# Altium schematic symbol library Schlib_Samsung.SchLib: 2 symbols
Pins are listed as number, name and electrical type; pins without a type are passive.

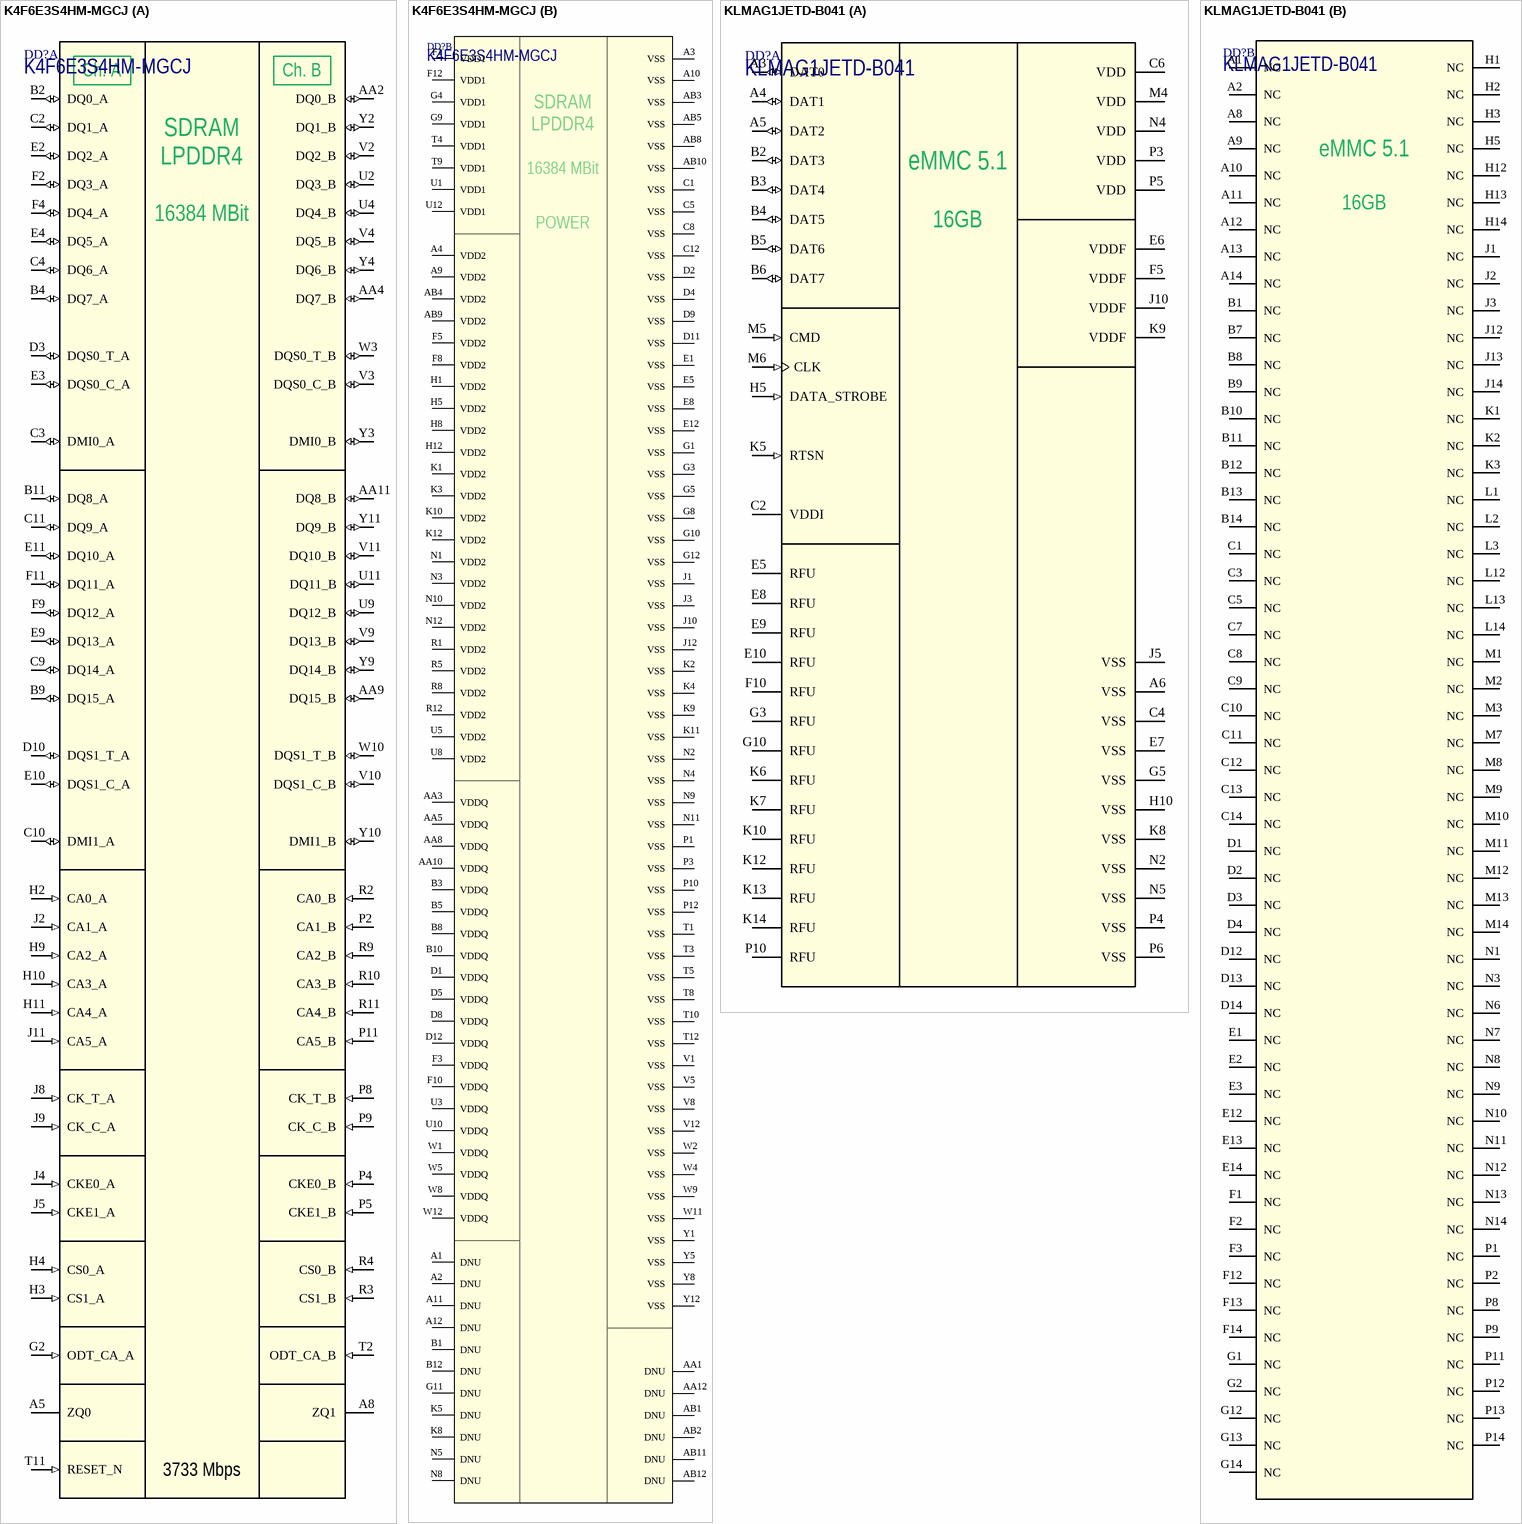
[diagram p0: symbols K4F6E3S4HM-MGCJ to KLMAG1JETD-B041]

## K4F6E3S4HM-MGCJ
designator DD?
16Gb LPDDR4 SDRAM (64Mb x 16 DQ x 8 banks x 2 channels); Manufacturer: Samsung; Package: FBGA-200 (10x15mm); Part Number: K4F6E3S4HM-MGCJ
footprint FBGA200_LPDDR4 (BGA, 200-Leads, Body 10,00x15,00mmx0,90mm, Pitch 0,65mm)
part A pins: A5 ZQ0, A8 ZQ1, AA2 DQ0_B (io), AA4 DQ7_B (io), AA9 DQ15_B (io), AA11 DQ8_B (io), B2 DQ0_A (io), B4 DQ7_A (io), B9 DQ15_A (io), B11 DQ8_A (io), C2 DQ1_A (io), C3 DMI0_A (io), C4 DQ6_A (io), C9 DQ14_A (io), C10 DMI1_A (io), C11 DQ9_A (io), D3 DQS0_T_A (io), D10 DQS1_T_A (io), E2 DQ2_A (io), E3 DQS0_C_A (io), E4 DQ5_A (io), E9 DQ13_A (io), E10 DQS1_C_A (io), E11 DQ10_A (io), F2 DQ3_A (io), F4 DQ4_A (io), F9 DQ12_A (io), F11 DQ11_A (io), G2 ODT_CA_A (in), H2 CA0_A (in), H3 CS1_A (in), H4 CS0_A (in), H9 CA2_A (in), H10 CA3_A (in), H11 CA4_A (in), J2 CA1_A (in), J4 CKE0_A (in), J5 CKE1_A (in), J8 CK_T_A (in), J9 CK_C_A (in), J11 CA5_A (in), P2 CA1_B (in), P4 CKE0_B (in), P5 CKE1_B (in), P8 CK_T_B (in), P9 CK_C_B (in), P11 CA5_B (in), R2 CA0_B (in), R3 CS1_B (in), R4 CS0_B (in), R9 CA2_B (in), R10 CA3_B (in), R11 CA4_B (in), T2 ODT_CA_B (in), T11 RESET_N (in), U2 DQ3_B (io), U4 DQ4_B (io), U9 DQ12_B (io), U11 DQ11_B (io), V2 DQ2_B (io), V3 DQS0_C_B (io), V4 DQ5_B (io), V9 DQ13_B (io), V10 DQS1_C_B (io), V11 DQ10_B (io), W3 DQS0_T_B (io), W10 DQS1_T_B (io), Y2 DQ1_B (io), Y3 DMI0_B (io), Y4 DQ6_B (io), Y9 DQ14_B (io), Y10 DMI1_B (io), Y11 DQ9_B (io)
part B pins: A1 DNU (hiz), A2 DNU (hiz), A3 VSS (power), A4 VDD2 (power), A9 VDD2 (power), A10 VSS (power), A11 DNU (hiz), A12 DNU (hiz), AA1 DNU (hiz), AA3 VDDQ (power), AA5 VDDQ (power), AA8 VDDQ (power), AA10 VDDQ (power), AA12 DNU (hiz), AB1 DNU (hiz), AB2 DNU (hiz), AB3 VSS (power), AB4 VDD2 (power), AB5 VSS (power), AB8 VSS (power), AB9 VDD2 (power), AB10 VSS (power), AB11 DNU (hiz), AB12 DNU (hiz), B1 DNU (hiz), B3 VDDQ (power), B5 VDDQ (power), B8 VDDQ (power), B10 VDDQ (power), B12 DNU (hiz), C1 VSS (power), C5 VSS (power), C8 VSS (power), C12 VSS (power), D1 VDDQ (power), D2 VSS (power), D4 VSS (power), D5 VDDQ (power), D8 VDDQ (power), D9 VSS (power), D11 VSS (power), D12 VDDQ (power), E1 VSS (power), E5 VSS (power), E8 VSS (power), E12 VSS (power), F1 VDD1 (power), F3 VDDQ (power), F5 VDD2 (power), F8 VDD2 (power), F10 VDDQ (power), F12 VDD1 (power), G1 VSS (power), G3 VSS (power), G4 VDD1 (power), G5 VSS (power), G8 VSS (power), G9 VDD1 (power), G10 VSS (power), G11 DNU (hiz), G12 VSS (power), H1 VDD2 (power), H5 VDD2 (power), H8 VDD2 (power), H12 VDD2 (power), J1 VSS (power), J3 VSS (power), J10 VSS (power), J12 VSS (power), K1 VDD2 (power), K2 VSS (power), K3 VDD2 (power), K4 VSS (power), K5 DNU (hiz), K8 DNU (hiz), K9 VSS (power), K10 VDD2 (power), K11 VSS (power), K12 VDD2 (power), N1 VDD2 (power), N2 VSS (power), N3 VDD2 (power), N4 VSS (power), N5 DNU (hiz), N8 DNU (hiz), N9 VSS (power), N10 VDD2 (power), N11 VSS (power), N12 VDD2 (power), P1 VSS (power), P3 VSS (power), P10 VSS (power), P12 VSS (power), R1 VDD2 (power), R5 VDD2 (power), R8 VDD2 (power), R12 VDD2 (power), T1 VSS (power), T3 VSS (power), T4 VDD1 (power), T5 VSS (power), T8 VSS (power), T9 VDD1 (power), T10 VSS (power), T12 VSS (power), U1 VDD1 (power), U3 VDDQ (power), U5 VDD2 (power), U8 VDD2 (power), U10 VDDQ (power), U12 VDD1 (power), V1 VSS (power), V5 VSS (power), V8 VSS (power), V12 VSS (power), W1 VDDQ (power), W2 VSS (power), W4 VSS (power), W5 VDDQ (power), W8 VDDQ (power), W9 VSS (power), W11 VSS (power), W12 VDDQ (power), Y1 VSS (power), Y5 VSS (power), Y8 VSS (power), Y12 VSS (power)
part A text: Ch. A; Ch. B; SDRAM; LPDDR4; 16384 MBit; 3733 Mbps
part B text: SDRAM; LPDDR4; 16384 MBit; POWER

## KLMAG1JETD-B041
designator DD?
eMMC 5.1 Flash memory, 16GB; Manufacturer: Samsung; Package: BGA-153 (11.5x13mm); Part Number: KLMAG1JETD-B041
footprint WFBGA-153 (WFBGA-153, 153-Leads, Body 11.50x13.00mm, Pitch 0.50mm)
part A pins: A3 DAT0 (io), A4 DAT1 (io), A5 DAT2 (io), A6 VSS (power), B2 DAT3 (io), B3 DAT4 (io), B4 DAT5 (io), B5 DAT6 (io), B6 DAT7 (io), C2 VDDI (power), C4 VSS (power), C6 VDD (power), E5 RFU (hiz), E6 VDDF (power), E7 VSS (power), E8 RFU (hiz), E9 RFU (hiz), E10 RFU (hiz), F5 VDDF (power), F10 RFU (hiz), G3 RFU (hiz), G5 VSS (power), G10 RFU (hiz), H5 DATA_STROBE (in), H10 VSS (power), J5 VSS (power), J10 VDDF (power), K5 RTSN (in), K6 RFU (hiz), K7 RFU (hiz), K8 VSS (power), K9 VDDF (power), K10 RFU (hiz), K12 RFU (hiz), K13 RFU (hiz), K14 RFU (hiz), M4 VDD (power), M5 CMD (in), M6 CLK (in), N2 VSS (power), N4 VDD (power), N5 VSS (power), P3 VDD (power), P4 VSS (power), P5 VDD (power), P6 VSS (power), P10 RFU (hiz)
part B pins: A1 NC (hiz), A2 NC (hiz), A8 NC (hiz), A9 NC (hiz), A10 NC (hiz), A11 NC (hiz), A12 NC (hiz), A13 NC (hiz), A14 NC (hiz), B1 NC (hiz), B7 NC (hiz), B8 NC (hiz), B9 NC (hiz), B10 NC (hiz), B11 NC (hiz), B12 NC (hiz), B13 NC (hiz), B14 NC (hiz), C1 NC (hiz), C3 NC (hiz), C5 NC (hiz), C7 NC (hiz), C8 NC (hiz), C9 NC (hiz), C10 NC (hiz), C11 NC (hiz), C12 NC (hiz), C13 NC (hiz), C14 NC (hiz), D1 NC (hiz), D2 NC (hiz), D3 NC (hiz), D4 NC (hiz), D12 NC (hiz), D13 NC (hiz), D14 NC (hiz), E1 NC (hiz), E2 NC (hiz), E3 NC (hiz), E12 NC (hiz), E13 NC (hiz), E14 NC (hiz), F1 NC (hiz), F2 NC (hiz), F3 NC (hiz), F12 NC (hiz), F13 NC (hiz), F14 NC (hiz), G1 NC (hiz), G2 NC (hiz), G12 NC (hiz), G13 NC (hiz), G14 NC (hiz), H1 NC (hiz), H2 NC (hiz), H3 NC (hiz), H5 NC (hiz), H12 NC (hiz), H13 NC (hiz), H14 NC (hiz), J1 NC (hiz), J2 NC (hiz), J3 NC (hiz), J12 NC (hiz), J13 NC (hiz), J14 NC (hiz), K1 NC (hiz), K2 NC (hiz), K3 NC (hiz), L1 NC (hiz), L2 NC (hiz), L3 NC (hiz), L12 NC (hiz), L13 NC (hiz), L14 NC (hiz), M1 NC (hiz), M2 NC (hiz), M3 NC (hiz), M7 NC (hiz), M8 NC (hiz), M9 NC (hiz), M10 NC (hiz), M11 NC (hiz), M12 NC (hiz), M13 NC (hiz), M14 NC (hiz), N1 NC (hiz), N3 NC (hiz), N6 NC (hiz), N7 NC (hiz), N8 NC (hiz), N9 NC (hiz), N10 NC (hiz), N11 NC (hiz), N12 NC (hiz), N13 NC (hiz), N14 NC (hiz), P1 NC (hiz), P2 NC (hiz), P8 NC (hiz), P9 NC (hiz), P11 NC (hiz), P12 NC (hiz), P13 NC (hiz), P14 NC (hiz)
part A text: eMMC 5.1; 16GB
part B text: eMMC 5.1; 16GB